# Altium footprint library Manu.PcbLib: 82 footprints (part 1 of 6)
Each footprint in its own frame and in the unit in brackets; x right, y up, seen from the top. Pads: shape width x height; smd on the part's side, far side on the other; paste and mask are expansions set on the pad; w line width, h text height; cw(c..) or ccw(c..) is an arc to the next point about the centre after c.
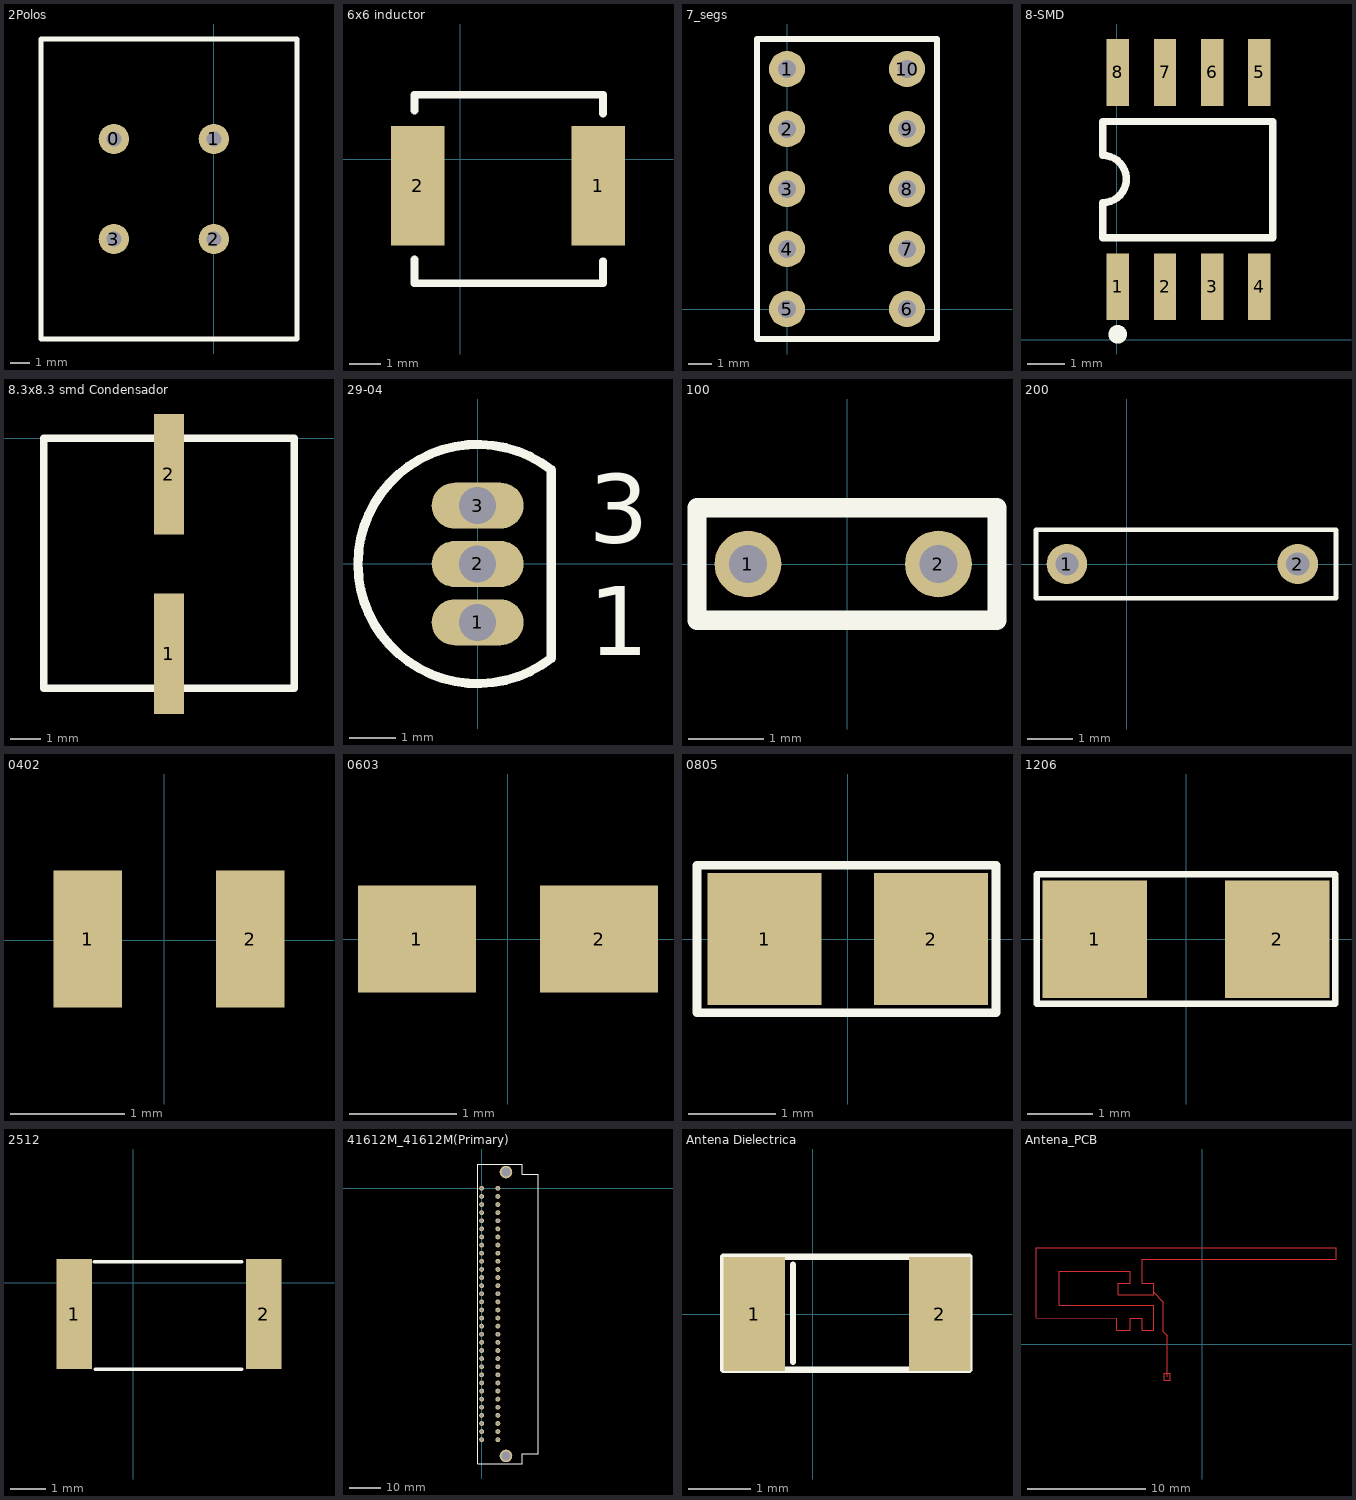
[diagram p0: the footprints below, top view; thin cyan lines are the x and y axes]

## 2Polos [mil] "Alimentacion 2 Polos"
pads (4):
  round 60 hole 30: 0(-196.85,787.4) 1(0,787.4) 2(0,590.55) 3(-196.85,590.55)
Top Overlay:
  lines w10: -340.55,393.7 -340.55,761.81 -340.55,984.25 -196.85,984.25 163.78,984.25 163.78,741.73 163.78,393.7 -340.55,393.7

## 6x6 inductor [mm]
height 1.75
pads (2):
  rect 1.7x3.8 smd: 1(4.4,-0.85) 2(-1.35,-0.85)
Top Overlay:
  lines w0.254: -1.45,-3.2 -1.45,-3.95 4.55,-3.95 4.55,-3.25 ; -1.45,1.55 -1.45,2.05 4.55,2.05 4.55,1.45

## 7_segs [mil]
pads (10):
  round 60 hole 30: 1(0,400) 2(0,300) 3(0,200) 4(0,100) 5(0,0) 6(200,0) 7(200,100) 8(200,200) 9(200,300) 10(200,400)
Top Overlay:
  lines w10: -50,-50 -50,450 250,450 250,-50 -50,-50

## 8-SMD [mm] "Optoacoplador DTMC"
pads (8):
  rect 0.6x1.8 smd: 1(0.03,1.43) 2(1.3,1.43) 3(2.57,1.43) 4(3.84,1.43) 5(3.84,7.2) 6(2.57,7.2) 7(1.3,7.2) 8(0.03,7.2)
Top Overlay:
  circle w0.25: c0.025,0.15 r0.125
  lines w0.2: -0.375,2.75 -0.375,3.695 ccw(c-0.375,4.33) -0.375,4.965 -0.375,5.88 4.2,5.88 4.2,2.75 -0.375,2.75

## 8.3x8.3 smd Condensador [mm]
height 1.75
pads (2):
  rect 1x4 smd: 1(6.65,-7.15) 2(6.65,-1.2)
Top Overlay:
  lines w0.254: 2.5,-8.3 10.8,-8.3 10.8,0 2.5,0 2.5,-8.3

## 29-04 [mm] "TO, Flat Index; 3 In-Line, Axial Leads; Body Dia. 4.8mm; Leads 0.48 x 0.5 mm (max)"
height 5.33
pads (3):
  oval 2x1 hole 0.8: 1(0,-1.27) 2(0,0) 3(0,1.27)
Top Overlay:
  lines w0.2: 1.601,-2.049 cw(c0,0) 1.601,2.049 ; 1.6,-1.99 1.6,1.99
  text "1" at 2.421,-1.979 h1.5
  text "3" at 2.421,0.467 h1.5

## 100 [mil] "100mils"
pads (2):
  round 35 hole 20: 1(-52.01,0) 2(48,0)
Top Overlay:
  lines w10: -78.74,-29.53 78.74,-29.53 78.74,-19.68 78.74,29.53 68.9,29.53 -78.74,29.53 -78.74,-29.53

## 200 [mil] "200mils"
pads (2):
  round 35 hole 20: 1(-52.01,0) 2(147.99,0)
Top Overlay:
  lines w3.94: -78.74,-29.53 -78.74,29.53 68.9,29.53 181.1,29.53 181.1,14.76 181.1,-29.53 78.74,-29.53 -78.74,-29.53

## 0402 [mm] "Chip Capacitor; Body 1.0 x 0.5 mm (LxW typ)"
height 1.35
pads (2):
  rect 0.6x1.2 smd: 1(-0.67,0.01) 2(0.75,0.01)

## 0603 [mm] "Tamaño 0603"
height 1.35
pads (2):
  rect 1.1x1 smd: 1(-0.85,0) 2(0.85,0)

## 0805 [mm] "Tamaño 0805"
height 1.1
pads (2):
  rect 1.3x1.5 smd: 1(-0.95,0) 2(0.95,0)
Top Overlay:
  lines w0.1: -1.72,-0.84 -1.72,0.84 1.69,0.84 1.69,-0.84 -1.72,-0.84

## 1206 [mm] "Tamaño 1206"
height 2.54
pads (2):
  rect 1.6x1.8 smd: 1(-1.4,0) 2(1.4,0)
Top Overlay:
  lines w0.1: -2.29,-0.99 2.29,-0.99 2.29,1 -2.29,1 -2.29,-0.99

## 2512 [mm] "Tamaño 2512"
height 2.54
pads (2):
  rect 1x3.1 smd: 1(-1.675,-0.875) 2(3.675,-0.875)
Top Overlay:
  lines w0.1: -1.1,0.6 3.05,0.6 ; -1.075,-2.425 3.05,-2.425

## 41612M_41612M(Primary) [mil]
pads (66):
  round 60 hole 38: A1(200,0) A2(200,-100) A3(200,-200) A4(200,-300) A5(200,-400) A6(200,-500) A7(200,-600) A8(200,-700) A9(200,-800) A10(200,-900) A11(200,-1000) A12(200,-1100) A13(200,-1200) A14(200,-1300) A15(200,-1400) A16(200,-1500) A17(200,-1600) A18(200,-1700) A19(200,-1800) A20(200,-1900) A21(200,-2000) A22(200,-2100) A23(200,-2200) A24(200,-2300) A25(200,-2400) A26(200,-2500) A27(200,-2600) A28(200,-2700) A29(200,-2800) A30(200,-2900) A31(200,-3000) A32(200,-3100) C1(0,0) C2(0,-100) C3(0,-200) C4(0,-300) C5(0,-400) C6(0,-500) C7(0,-600) C8(0,-700) C9(0,-800) C10(0,-900) C11(0,-1000) C12(0,-1100) C13(0,-1200) C14(0,-1300) C15(0,-1400) C16(0,-1500) C17(0,-1600) C18(0,-1700) C19(0,-1800) C20(0,-1900) C21(0,-2000) C22(0,-2100) C23(0,-2200) C24(0,-2300) C25(0,-2400) C26(0,-2500) C27(0,-2600) C28(0,-2700) C29(0,-2800) C30(0,-2900) C31(0,-3000) C32(0,-3100)
  round 156 hole 110: Dummy1(300,200) Dummy2(300,-3300)
Top Overlay:
  lines w10: -50,-3400 -50,300 500,300 500,175 700,175 700,-3275 500,-3275 500,-3400 -50,-3400

## Antena Dielectrica [mm]
height 1.5
pads (2):
  rect 1x1.85 smd: 1(-0.95,0) 2(2.05,0)
Top Overlay:
  lines w0.1: -0.325,-0.775 -0.325,0.8 ; -1.45,-0.9 -1.45,0.925 2.525,0.925 2.525,-0.9 -1.45,-0.9

## Antena_PCB [mm] "Antena en Pcb"
Top Layer:
  lines w0.01: -14.094,2.231 -14.094,8.175 11.306,8.175 11.306,7.164 -5.11,7.164 -5.11,5.165 -4.112,5.165 -4.112,4.164 -7.112,4.164 -7.112,5.165 -6.111,5.165 -6.111,6.166 -12.11,6.166 -12.11,3.298 -4.112,3.298 -4.112,1.164 -5.11,1.164 -5.11,2.165 -6.111,2.165 -6.111,1.164 -7.261,1.164 -7.261,2.206 -14.094,2.233 ; -4.138,4.374 -3.324,3.56 -3.324,1.037 -2.994,0.707 -2.994,-1.071 -2.994,-2.767 ; -3.248,-3.085 -3.248,-2.475 -2.74,-2.475 -2.74,-3.085 -3.248,-3.085
Mid-Layer 2:
  lines w0.01: -14.094,2.231 -13.561,2.231 ; -14.094,2.231 -14.094,8.175 11.306,8.175 11.306,7.164 -5.11,7.164 -5.11,5.165 -4.112,5.165 -4.112,4.164 -7.112,4.164 -7.112,5.165 -6.111,5.165 -6.111,6.166 -12.11,6.166 -12.11,3.298 -4.112,3.298 -4.112,1.164 -5.11,1.164 -5.11,2.165 -6.111,2.165 -6.111,1.164 -7.261,1.164 -7.261,2.206 -13.561,2.231 ; -14.094,2.231 -13.561,2.231